# Altium schematic symbol library LAB_003.SchLib: 12 symbols
Pins are listed as number, name and electrical type; pins without a type are passive.

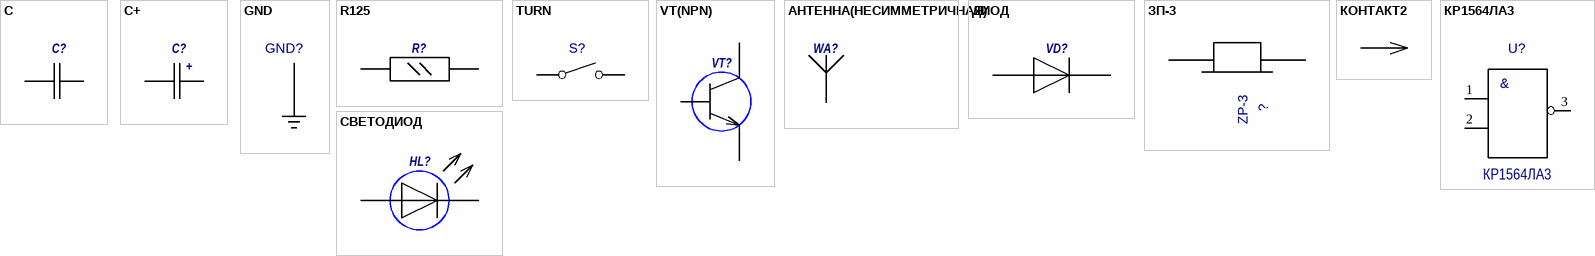
[diagram p0: symbols C to СВЕТОДИОД]

## C
designator C?, comment K71-6 (5-30 МК)  (value not drawn)
footprint K71-6 (10X4)
pins: 1, 2

## C+
designator C?, comment K50-29 (1;2,2;4,7;10;22 MK)  (value not drawn)
footprint К50-29 (17Х6)
pins: 1, 2
text: +

## GND
designator GND?  (value not drawn)
pins: 1 (power)

## R125
designator R?, comment МЛТ(0.125)  (value not drawn)
footprint МЛТ(0.125)
pins: 1, 2

## TURN
designator S?  (value not drawn)
footprint TRN
pins: 1, 2

## VT(NPN)
designator VT?, comment KT315  (value not drawn)
footprint КT315
pins: 1, 2, 3

## АНТЕННА(НЕСИММЕТРИЧНАЯ)
designator WA?  (value not drawn)
footprint АНТЕННА
pins: 1

## ДИОД
designator VD?, comment КД213А  (value not drawn)
footprint КД213
pins: 1, 2

## ЗП-3
designator ?, comment ZP-3
footprint ЗП-3
pins: 1, 2

## КОНТАКТ2
designator PWR?  (value not drawn)
pins: 1 КОНТАКТ2 (power)

## КР1564ЛА3
designator U?
pins: 1, 2, 3
text: &

## СВЕТОДИОД
designator HL?, comment АЛ307  (value not drawn)
footprint АЛ307
pins: 1, 2